# Altium integrated library Linear Technology Power Management System Supervisor, Monitor and Control.IntLib: 1611 symbols (part 13 of 100)
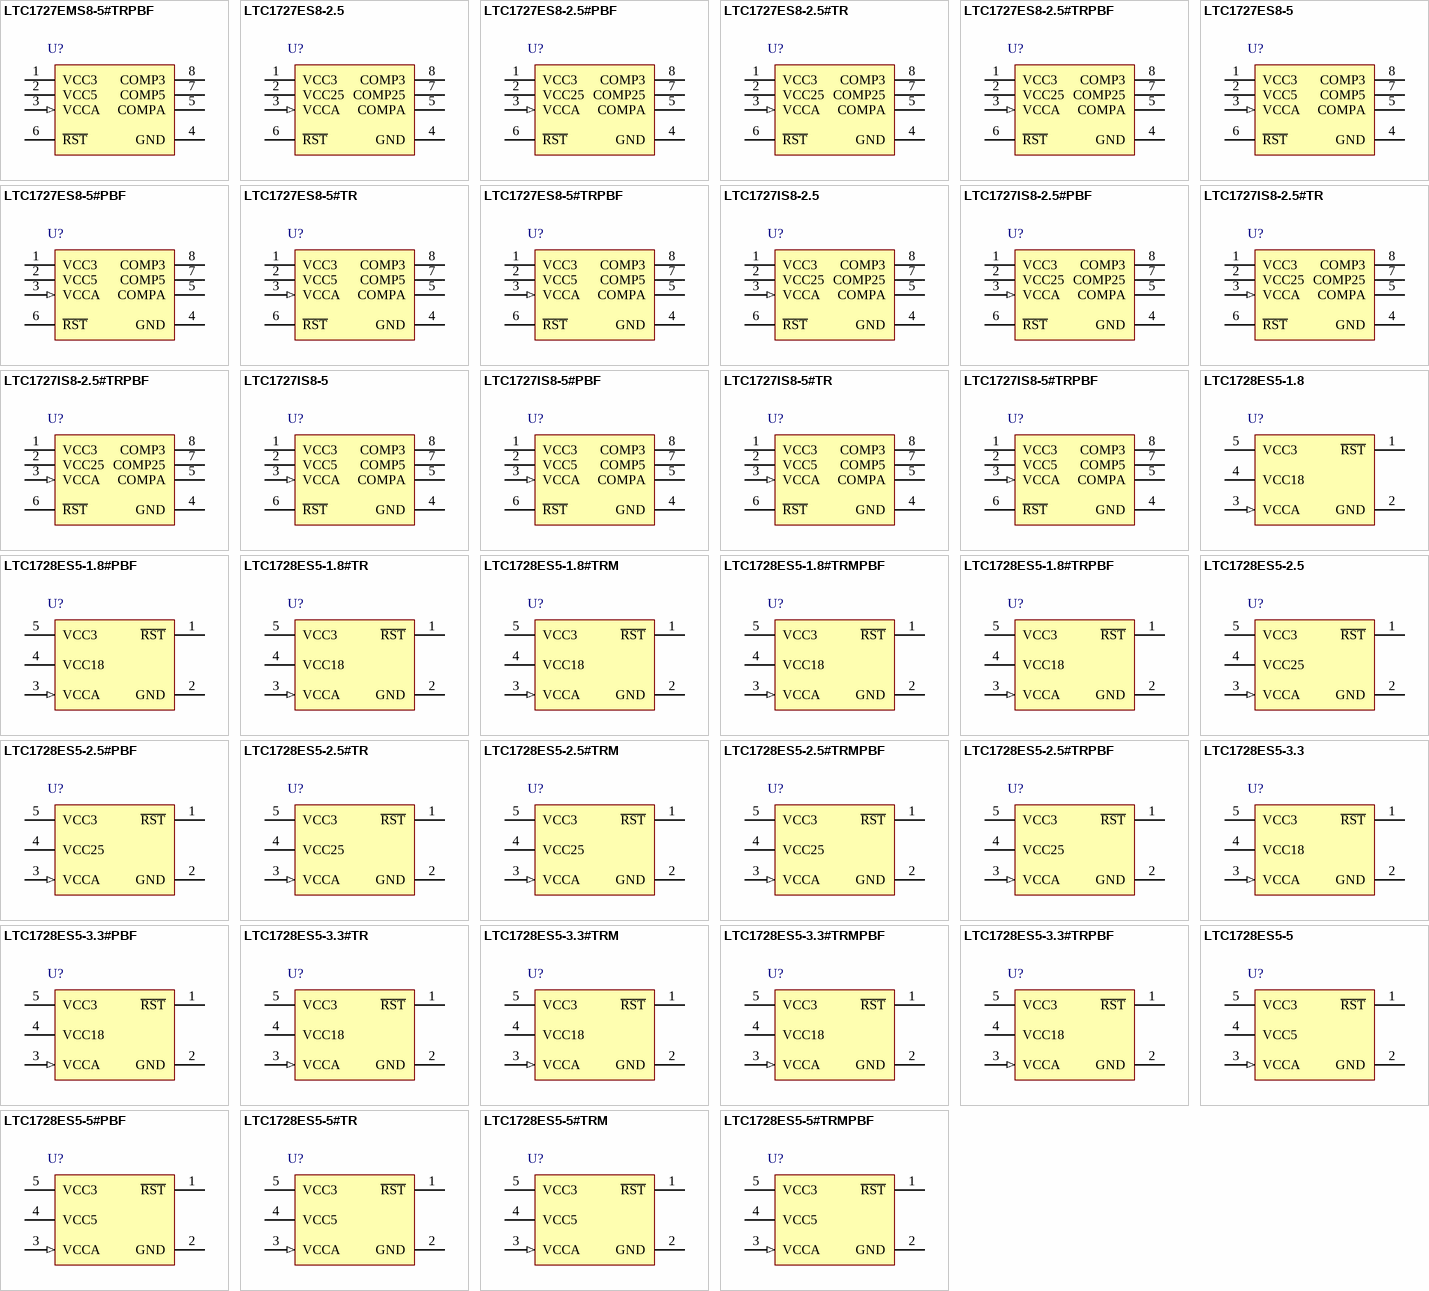
[diagram p57: symbols LTC1727EMS8-5#TRPBF to LTC1728ES5-5#TRMPBF]

## LTC1727EMS8-5#TRPBF
designator U?
Micropower Precision Triple Supply Monitor, 8-pin SOP (MS8-8), -40 to 85 degC, Pb-Free, Tape and Reel; Manufacturer: Linear Technology; PartNumber: LTC1727EMS8-5#TRPBF; Number of Supplies(#): 3; DatasheetVersion: Rev. B; PackageVersion: Rev. G, 03/2012; PackageReference: MS8-8; PackageDescription: 8-Pin Plastic MSOP, Body 3 x 3 mm, Pitch 0.65 mm; Supplier 1: Digi-Key; Supplier Part Number 1: LTC1727EMS8-5#TRPBF-ND; Packing: Tape and Reel; RoHS: TRUE; Mounting Technology: Surface Mount; ComponentLink1Description: Manufacturer URL; ComponentLink1URL: http://www.linear.com/; ComponentLink2Description: Datasheet; ComponentLink2URL: http://cds.linear.com/docs/en/datasheet/17278fb.pdf; ComponentLink3Description: Package Specification; ComponentLink3URL: http://cds.linear.com/docs/en/packaging/05081660_G_MS8.pdf
footprint LT-MS8-8_N (SOP, 8-Leads, Body 3.1x3.1mm, Pitch 0.65mm, IPC Medium Density)
footprint LT-MS8-8_L (SOP, 8-Leads, Body 3.1x3.1mm, Pitch 0.65mm, IPC High Density)
footprint LT-MS8-8_M (SOP, 8-Leads, Body 3.1x3.1mm, Pitch 0.65mm, IPC Low Density)
pins: 1 VCC3 (power) "3.3V Sense Input and Power Supply Pin. (3V Sense Input and Power Supply Pin for LTC1728- 1.8.) This pin provides power to the part when the voltage on VCC3 is greater than the voltage on VCC5/VCC25/VCC18. Bypass to ground (See Datasheet)", 2 VCC5 (power) "5V Sense Input and Power Supply Pin. This pin is used on the LTC1727-5/LTC1728-5 to provide power to the part when the voltage on VCC5 is greater than the voltage on VCC3. Bypass to ground with a >=0.1uF ceramic capacitor.", 3 VCCA (in) "1V Sense, High Impedance Input. If unused, it can be tied to either VCC3 or VCC5/VCC25/VCC18.", 4 GND (power) "Ground.", 5 COMPA (oc) "VCCA Comparator Output for the LTC1727. Active high, open-drain logic output with weak pull-up to VCC3. Asserted when VCCA is above VRTA. Deasserted when VCCA is below VRTA or if both the VCC3 and VCC5 supply pins are too (See Datasheet)", 6 ~{RST} (oc) "Reset Logic Output. Active low, opendrain logic output with weak pull-up to VCC3. Can be pulled up greater than VCC3 when interfacing to 5V logic. Asserted when one or all of the supplies are below trip thresholds and held (See Datasheet)", 7 COMP5 (oc) "VCC5 Comparator Output for the LTC1727-5. Active high, open-drain logic output with weak pull-up to VCC3. Asserted when VCC5 is above VRT5. Can be pulled greater than VCC3 using an external pull-up.", 8 COMP3 (oc) "VCC3 Comparator Output for the LTC1727. Active high, open-drain logic output with weak pull-up to VCC3. Asserted when VCC3 is above VRT3. Can be pulled greater than VCC3 using an external pull-up."

## LTC1727ES8-2.5
designator U?
Micropower Precision Triple Supply Monitor, 8-pin SOIC (S8-8), -40 to 85 degC; Manufacturer: Linear Technology; PartNumber: LTC1727ES8-2.5; Number of Supplies(#): 3; DatasheetVersion: Rev. B; PackageVersion: Rev. G, 03/2012; PackageReference: S8-8; PackageDescription: 8-Pin Plastic Small Outline (Narrow .150 Inch), Body 4.9 x 3.9 mm, Pitch 1.27 mm; Supplier 1: Digi-Key; Supplier Part Number 1: LTC1727ES8-2.5-ND; RoHS: FALSE; Mounting Technology: Surface Mount; ComponentLink1Description: Manufacturer URL; ComponentLink1URL: http://www.linear.com/; ComponentLink2Description: Datasheet; ComponentLink2URL: http://cds.linear.com/docs/en/datasheet/17278fb.pdf; ComponentLink3Description: Package Specification; ComponentLink3URL: http://cds.linear.com/docs/en/packaging/05081610_G_SO8.pdf
footprint LT-S8-8_N (SOIC, 8-Leads, Body 5x4mm, Pitch 1.27mm, IPC Medium Density)
footprint LT-S8-8_L (SOIC, 8-Leads, Body 5x4mm, Pitch 1.27mm, IPC High Density)
footprint LT-S8-8_M (SOIC, 8-Leads, Body 5x4mm, Pitch 1.27mm, IPC Low Density)
pins: 1 VCC3 (power) "3.3V Sense Input and Power Supply Pin. (3V Sense Input and Power Supply Pin for LTC1728- 1.8.) This pin provides power to the part when the voltage on VCC3 is greater than the voltage on VCC5/VCC25/VCC18. Bypass to ground (See Datasheet)", 2 VCC25 (power) "2.5V Sense Input and Power Supply Pin. This pin is used on the LTC1727-2.5/LTC1728-2.5 to provide power to the part when the voltage on VCC25 is greater than the voltage on VCC3. Bypass to ground with a >=0.1uF ceramic (See Datasheet)", 3 VCCA (in) "1V Sense, High Impedance Input. If unused, it can be tied to either VCC3 or VCC5/VCC25/VCC18.", 4 GND (power) "Ground.", 5 COMPA (oc) "VCCA Comparator Output for the LTC1727. Active high, open-drain logic output with weak pull-up to VCC3. Asserted when VCCA is above VRTA. Deasserted when VCCA is below VRTA or if both the VCC3 and VCC5 supply pins are too (See Datasheet)", 6 ~{RST} (oc) "Reset Logic Output. Active low, opendrain logic output with weak pull-up to VCC3. Can be pulled up greater than VCC3 when interfacing to 5V logic. Asserted when one or all of the supplies are below trip thresholds and held (See Datasheet)", 7 COMP25 (oc) "VCC25 Comparator Output for the LTC1727-2.5. Active high, open-drain logic output with weak pull-up to VCC3. Asserted when VCC25 is above VRT25. Can be pulled greater than VCC3 using an external pull-up.", 8 COMP3 (oc) "VCC3 Comparator Output for the LTC1727. Active high, open-drain logic output with weak pull-up to VCC3. Asserted when VCC3 is above VRT3. Can be pulled greater than VCC3 using an external pull-up."

## LTC1727ES8-2.5#PBF
designator U?
Micropower Precision Triple Supply Monitor, 8-pin SOIC (S8-8), -40 to 85 degC, Pb-Free; Manufacturer: Linear Technology; PartNumber: LTC1727ES8-2.5#PBF; Number of Supplies(#): 3; DatasheetVersion: Rev. B; PackageVersion: Rev. G, 03/2012; PackageReference: S8-8; PackageDescription: 8-Pin Plastic Small Outline (Narrow .150 Inch), Body 4.9 x 3.9 mm, Pitch 1.27 mm; Supplier 1: Digi-Key; Supplier Part Number 1: LTC1727ES8-2.5#PBF-ND; RoHS: TRUE; Mounting Technology: Surface Mount; ComponentLink1Description: Manufacturer URL; ComponentLink1URL: http://www.linear.com/; ComponentLink2Description: Datasheet; ComponentLink2URL: http://cds.linear.com/docs/en/datasheet/17278fb.pdf; ComponentLink3Description: Package Specification; ComponentLink3URL: http://cds.linear.com/docs/en/packaging/05081610_G_SO8.pdf
footprint LT-S8-8_N (SOIC, 8-Leads, Body 5x4mm, Pitch 1.27mm, IPC Medium Density)
footprint LT-S8-8_L (SOIC, 8-Leads, Body 5x4mm, Pitch 1.27mm, IPC High Density)
footprint LT-S8-8_M (SOIC, 8-Leads, Body 5x4mm, Pitch 1.27mm, IPC Low Density)
pins: 1 VCC3 (power) "3.3V Sense Input and Power Supply Pin. (3V Sense Input and Power Supply Pin for LTC1728- 1.8.) This pin provides power to the part when the voltage on VCC3 is greater than the voltage on VCC5/VCC25/VCC18. Bypass to ground (See Datasheet)", 2 VCC25 (power) "2.5V Sense Input and Power Supply Pin. This pin is used on the LTC1727-2.5/LTC1728-2.5 to provide power to the part when the voltage on VCC25 is greater than the voltage on VCC3. Bypass to ground with a >=0.1uF ceramic (See Datasheet)", 3 VCCA (in) "1V Sense, High Impedance Input. If unused, it can be tied to either VCC3 or VCC5/VCC25/VCC18.", 4 GND (power) "Ground.", 5 COMPA (oc) "VCCA Comparator Output for the LTC1727. Active high, open-drain logic output with weak pull-up to VCC3. Asserted when VCCA is above VRTA. Deasserted when VCCA is below VRTA or if both the VCC3 and VCC5 supply pins are too (See Datasheet)", 6 ~{RST} (oc) "Reset Logic Output. Active low, opendrain logic output with weak pull-up to VCC3. Can be pulled up greater than VCC3 when interfacing to 5V logic. Asserted when one or all of the supplies are below trip thresholds and held (See Datasheet)", 7 COMP25 (oc) "VCC25 Comparator Output for the LTC1727-2.5. Active high, open-drain logic output with weak pull-up to VCC3. Asserted when VCC25 is above VRT25. Can be pulled greater than VCC3 using an external pull-up.", 8 COMP3 (oc) "VCC3 Comparator Output for the LTC1727. Active high, open-drain logic output with weak pull-up to VCC3. Asserted when VCC3 is above VRT3. Can be pulled greater than VCC3 using an external pull-up."

## LTC1727ES8-2.5#TR
designator U?
Micropower Precision Triple Supply Monitor, 8-pin SOIC (S8-8), -40 to 85 degC, Tape and Reel; Manufacturer: Linear Technology; PartNumber: LTC1727ES8-2.5#TR; Number of Supplies(#): 3; DatasheetVersion: Rev. B; PackageVersion: Rev. G, 03/2012; PackageReference: S8-8; PackageDescription: 8-Pin Plastic Small Outline (Narrow .150 Inch), Body 4.9 x 3.9 mm, Pitch 1.27 mm; Supplier 1: Digi-Key; Supplier Part Number 1: LTC1727ES8-2.5#TR-ND; Packing: Tape and Reel; RoHS: FALSE; Mounting Technology: Surface Mount; ComponentLink1Description: Manufacturer URL; ComponentLink1URL: http://www.linear.com/; ComponentLink2Description: Datasheet; ComponentLink2URL: http://cds.linear.com/docs/en/datasheet/17278fb.pdf; ComponentLink3Description: Package Specification; ComponentLink3URL: http://cds.linear.com/docs/en/packaging/05081610_G_SO8.pdf
footprint LT-S8-8_N (SOIC, 8-Leads, Body 5x4mm, Pitch 1.27mm, IPC Medium Density)
footprint LT-S8-8_L (SOIC, 8-Leads, Body 5x4mm, Pitch 1.27mm, IPC High Density)
footprint LT-S8-8_M (SOIC, 8-Leads, Body 5x4mm, Pitch 1.27mm, IPC Low Density)
pins: 1 VCC3 (power) "3.3V Sense Input and Power Supply Pin. (3V Sense Input and Power Supply Pin for LTC1728- 1.8.) This pin provides power to the part when the voltage on VCC3 is greater than the voltage on VCC5/VCC25/VCC18. Bypass to ground (See Datasheet)", 2 VCC25 (power) "2.5V Sense Input and Power Supply Pin. This pin is used on the LTC1727-2.5/LTC1728-2.5 to provide power to the part when the voltage on VCC25 is greater than the voltage on VCC3. Bypass to ground with a >=0.1uF ceramic (See Datasheet)", 3 VCCA (in) "1V Sense, High Impedance Input. If unused, it can be tied to either VCC3 or VCC5/VCC25/VCC18.", 4 GND (power) "Ground.", 5 COMPA (oc) "VCCA Comparator Output for the LTC1727. Active high, open-drain logic output with weak pull-up to VCC3. Asserted when VCCA is above VRTA. Deasserted when VCCA is below VRTA or if both the VCC3 and VCC5 supply pins are too (See Datasheet)", 6 ~{RST} (oc) "Reset Logic Output. Active low, opendrain logic output with weak pull-up to VCC3. Can be pulled up greater than VCC3 when interfacing to 5V logic. Asserted when one or all of the supplies are below trip thresholds and held (See Datasheet)", 7 COMP25 (oc) "VCC25 Comparator Output for the LTC1727-2.5. Active high, open-drain logic output with weak pull-up to VCC3. Asserted when VCC25 is above VRT25. Can be pulled greater than VCC3 using an external pull-up.", 8 COMP3 (oc) "VCC3 Comparator Output for the LTC1727. Active high, open-drain logic output with weak pull-up to VCC3. Asserted when VCC3 is above VRT3. Can be pulled greater than VCC3 using an external pull-up."

## LTC1727ES8-2.5#TRPBF
designator U?
Micropower Precision Triple Supply Monitor, 8-pin SOIC (S8-8), -40 to 85 degC, Pb-Free, Tape and Reel; Manufacturer: Linear Technology; PartNumber: LTC1727ES8-2.5#TRPBF; Number of Supplies(#): 3; DatasheetVersion: Rev. B; PackageVersion: Rev. G, 03/2012; PackageReference: S8-8; PackageDescription: 8-Pin Plastic Small Outline (Narrow .150 Inch), Body 4.9 x 3.9 mm, Pitch 1.27 mm; Supplier 1: Digi-Key; Supplier Part Number 1: LTC1727ES8-2.5#TRPBF-ND; Packing: Tape and Reel; RoHS: TRUE; Mounting Technology: Surface Mount; ComponentLink1Description: Manufacturer URL; ComponentLink1URL: http://www.linear.com/; ComponentLink2Description: Datasheet; ComponentLink2URL: http://cds.linear.com/docs/en/datasheet/17278fb.pdf; ComponentLink3Description: Package Specification; ComponentLink3URL: http://cds.linear.com/docs/en/packaging/05081610_G_SO8.pdf
footprint LT-S8-8_N (SOIC, 8-Leads, Body 5x4mm, Pitch 1.27mm, IPC Medium Density)
footprint LT-S8-8_L (SOIC, 8-Leads, Body 5x4mm, Pitch 1.27mm, IPC High Density)
footprint LT-S8-8_M (SOIC, 8-Leads, Body 5x4mm, Pitch 1.27mm, IPC Low Density)
pins: 1 VCC3 (power) "3.3V Sense Input and Power Supply Pin. (3V Sense Input and Power Supply Pin for LTC1728- 1.8.) This pin provides power to the part when the voltage on VCC3 is greater than the voltage on VCC5/VCC25/VCC18. Bypass to ground (See Datasheet)", 2 VCC25 (power) "2.5V Sense Input and Power Supply Pin. This pin is used on the LTC1727-2.5/LTC1728-2.5 to provide power to the part when the voltage on VCC25 is greater than the voltage on VCC3. Bypass to ground with a >=0.1uF ceramic (See Datasheet)", 3 VCCA (in) "1V Sense, High Impedance Input. If unused, it can be tied to either VCC3 or VCC5/VCC25/VCC18.", 4 GND (power) "Ground.", 5 COMPA (oc) "VCCA Comparator Output for the LTC1727. Active high, open-drain logic output with weak pull-up to VCC3. Asserted when VCCA is above VRTA. Deasserted when VCCA is below VRTA or if both the VCC3 and VCC5 supply pins are too (See Datasheet)", 6 ~{RST} (oc) "Reset Logic Output. Active low, opendrain logic output with weak pull-up to VCC3. Can be pulled up greater than VCC3 when interfacing to 5V logic. Asserted when one or all of the supplies are below trip thresholds and held (See Datasheet)", 7 COMP25 (oc) "VCC25 Comparator Output for the LTC1727-2.5. Active high, open-drain logic output with weak pull-up to VCC3. Asserted when VCC25 is above VRT25. Can be pulled greater than VCC3 using an external pull-up.", 8 COMP3 (oc) "VCC3 Comparator Output for the LTC1727. Active high, open-drain logic output with weak pull-up to VCC3. Asserted when VCC3 is above VRT3. Can be pulled greater than VCC3 using an external pull-up."

## LTC1727ES8-5
designator U?
Micropower Precision Triple Supply Monitor, 8-pin SOIC (S8-8), -40 to 85 degC; Manufacturer: Linear Technology; PartNumber: LTC1727ES8-5; Number of Supplies(#): 3; DatasheetVersion: Rev. B; PackageVersion: Rev. G, 03/2012; PackageReference: S8-8; PackageDescription: 8-Pin Plastic Small Outline (Narrow .150 Inch), Body 4.9 x 3.9 mm, Pitch 1.27 mm; Supplier 1: Digi-Key; Supplier Part Number 1: LTC1727ES8-5-ND; Supplier 2: Newark; Supplier Part Number 2: 56M3477; RoHS: FALSE; Mounting Technology: Surface Mount; ComponentLink1Description: Manufacturer URL; ComponentLink1URL: http://www.linear.com/; ComponentLink2Description: Datasheet; ComponentLink2URL: http://cds.linear.com/docs/en/datasheet/17278fb.pdf; ComponentLink3Description: Package Specification; ComponentLink3URL: http://cds.linear.com/docs/en/packaging/05081610_G_SO8.pdf
footprint LT-S8-8_N (SOIC, 8-Leads, Body 5x4mm, Pitch 1.27mm, IPC Medium Density)
footprint LT-S8-8_L (SOIC, 8-Leads, Body 5x4mm, Pitch 1.27mm, IPC High Density)
footprint LT-S8-8_M (SOIC, 8-Leads, Body 5x4mm, Pitch 1.27mm, IPC Low Density)
pins: 1 VCC3 (power) "3.3V Sense Input and Power Supply Pin. (3V Sense Input and Power Supply Pin for LTC1728- 1.8.) This pin provides power to the part when the voltage on VCC3 is greater than the voltage on VCC5/VCC25/VCC18. Bypass to ground (See Datasheet)", 2 VCC5 (power) "5V Sense Input and Power Supply Pin. This pin is used on the LTC1727-5/LTC1728-5 to provide power to the part when the voltage on VCC5 is greater than the voltage on VCC3. Bypass to ground with a >=0.1uF ceramic capacitor.", 3 VCCA (in) "1V Sense, High Impedance Input. If unused, it can be tied to either VCC3 or VCC5/VCC25/VCC18.", 4 GND (power) "Ground.", 5 COMPA (oc) "VCCA Comparator Output for the LTC1727. Active high, open-drain logic output with weak pull-up to VCC3. Asserted when VCCA is above VRTA. Deasserted when VCCA is below VRTA or if both the VCC3 and VCC5 supply pins are too (See Datasheet)", 6 ~{RST} (oc) "Reset Logic Output. Active low, opendrain logic output with weak pull-up to VCC3. Can be pulled up greater than VCC3 when interfacing to 5V logic. Asserted when one or all of the supplies are below trip thresholds and held (See Datasheet)", 7 COMP5 (oc) "VCC5 Comparator Output for the LTC1727-5. Active high, open-drain logic output with weak pull-up to VCC3. Asserted when VCC5 is above VRT5. Can be pulled greater than VCC3 using an external pull-up.", 8 COMP3 (oc) "VCC3 Comparator Output for the LTC1727. Active high, open-drain logic output with weak pull-up to VCC3. Asserted when VCC3 is above VRT3. Can be pulled greater than VCC3 using an external pull-up."

## LTC1727ES8-5#PBF
designator U?
Micropower Precision Triple Supply Monitor, 8-pin SOIC (S8-8), -40 to 85 degC, Pb-Free; Manufacturer: Linear Technology; PartNumber: LTC1727ES8-5#PBF; Number of Supplies(#): 3; DatasheetVersion: Rev. B; PackageVersion: Rev. G, 03/2012; PackageReference: S8-8; PackageDescription: 8-Pin Plastic Small Outline (Narrow .150 Inch), Body 4.9 x 3.9 mm, Pitch 1.27 mm; Supplier 1: Digi-Key; Supplier Part Number 1: LTC1727ES8-5#PBF-ND; Supplier 2: Farnell; Supplier Part Number 2: 1273652; RoHS: TRUE; Mounting Technology: Surface Mount; ComponentLink1Description: Manufacturer URL; ComponentLink1URL: http://www.linear.com/; ComponentLink2Description: Datasheet; ComponentLink2URL: http://cds.linear.com/docs/en/datasheet/17278fb.pdf; ComponentLink3Description: Package Specification; ComponentLink3URL: http://cds.linear.com/docs/en/packaging/05081610_G_SO8.pdf
footprint LT-S8-8_N (SOIC, 8-Leads, Body 5x4mm, Pitch 1.27mm, IPC Medium Density)
footprint LT-S8-8_L (SOIC, 8-Leads, Body 5x4mm, Pitch 1.27mm, IPC High Density)
footprint LT-S8-8_M (SOIC, 8-Leads, Body 5x4mm, Pitch 1.27mm, IPC Low Density)
pins: 1 VCC3 (power) "3.3V Sense Input and Power Supply Pin. (3V Sense Input and Power Supply Pin for LTC1728- 1.8.) This pin provides power to the part when the voltage on VCC3 is greater than the voltage on VCC5/VCC25/VCC18. Bypass to ground (See Datasheet)", 2 VCC5 (power) "5V Sense Input and Power Supply Pin. This pin is used on the LTC1727-5/LTC1728-5 to provide power to the part when the voltage on VCC5 is greater than the voltage on VCC3. Bypass to ground with a >=0.1uF ceramic capacitor.", 3 VCCA (in) "1V Sense, High Impedance Input. If unused, it can be tied to either VCC3 or VCC5/VCC25/VCC18.", 4 GND (power) "Ground.", 5 COMPA (oc) "VCCA Comparator Output for the LTC1727. Active high, open-drain logic output with weak pull-up to VCC3. Asserted when VCCA is above VRTA. Deasserted when VCCA is below VRTA or if both the VCC3 and VCC5 supply pins are too (See Datasheet)", 6 ~{RST} (oc) "Reset Logic Output. Active low, opendrain logic output with weak pull-up to VCC3. Can be pulled up greater than VCC3 when interfacing to 5V logic. Asserted when one or all of the supplies are below trip thresholds and held (See Datasheet)", 7 COMP5 (oc) "VCC5 Comparator Output for the LTC1727-5. Active high, open-drain logic output with weak pull-up to VCC3. Asserted when VCC5 is above VRT5. Can be pulled greater than VCC3 using an external pull-up.", 8 COMP3 (oc) "VCC3 Comparator Output for the LTC1727. Active high, open-drain logic output with weak pull-up to VCC3. Asserted when VCC3 is above VRT3. Can be pulled greater than VCC3 using an external pull-up."

## LTC1727ES8-5#TR
designator U?
Micropower Precision Triple Supply Monitor, 8-pin SOIC (S8-8), -40 to 85 degC, Tape and Reel; Manufacturer: Linear Technology; PartNumber: LTC1727ES8-5#TR; Number of Supplies(#): 3; DatasheetVersion: Rev. B; PackageVersion: Rev. G, 03/2012; PackageReference: S8-8; PackageDescription: 8-Pin Plastic Small Outline (Narrow .150 Inch), Body 4.9 x 3.9 mm, Pitch 1.27 mm; Supplier 1: Digi-Key; Supplier Part Number 1: LTC1727ES8-5#TR-ND; Packing: Tape and Reel; RoHS: FALSE; Mounting Technology: Surface Mount; ComponentLink1Description: Manufacturer URL; ComponentLink1URL: http://www.linear.com/; ComponentLink2Description: Datasheet; ComponentLink2URL: http://cds.linear.com/docs/en/datasheet/17278fb.pdf; ComponentLink3Description: Package Specification; ComponentLink3URL: http://cds.linear.com/docs/en/packaging/05081610_G_SO8.pdf
footprint LT-S8-8_N (SOIC, 8-Leads, Body 5x4mm, Pitch 1.27mm, IPC Medium Density)
footprint LT-S8-8_L (SOIC, 8-Leads, Body 5x4mm, Pitch 1.27mm, IPC High Density)
footprint LT-S8-8_M (SOIC, 8-Leads, Body 5x4mm, Pitch 1.27mm, IPC Low Density)
pins: 1 VCC3 (power) "3.3V Sense Input and Power Supply Pin. (3V Sense Input and Power Supply Pin for LTC1728- 1.8.) This pin provides power to the part when the voltage on VCC3 is greater than the voltage on VCC5/VCC25/VCC18. Bypass to ground (See Datasheet)", 2 VCC5 (power) "5V Sense Input and Power Supply Pin. This pin is used on the LTC1727-5/LTC1728-5 to provide power to the part when the voltage on VCC5 is greater than the voltage on VCC3. Bypass to ground with a >=0.1uF ceramic capacitor.", 3 VCCA (in) "1V Sense, High Impedance Input. If unused, it can be tied to either VCC3 or VCC5/VCC25/VCC18.", 4 GND (power) "Ground.", 5 COMPA (oc) "VCCA Comparator Output for the LTC1727. Active high, open-drain logic output with weak pull-up to VCC3. Asserted when VCCA is above VRTA. Deasserted when VCCA is below VRTA or if both the VCC3 and VCC5 supply pins are too (See Datasheet)", 6 ~{RST} (oc) "Reset Logic Output. Active low, opendrain logic output with weak pull-up to VCC3. Can be pulled up greater than VCC3 when interfacing to 5V logic. Asserted when one or all of the supplies are below trip thresholds and held (See Datasheet)", 7 COMP5 (oc) "VCC5 Comparator Output for the LTC1727-5. Active high, open-drain logic output with weak pull-up to VCC3. Asserted when VCC5 is above VRT5. Can be pulled greater than VCC3 using an external pull-up.", 8 COMP3 (oc) "VCC3 Comparator Output for the LTC1727. Active high, open-drain logic output with weak pull-up to VCC3. Asserted when VCC3 is above VRT3. Can be pulled greater than VCC3 using an external pull-up."

## LTC1727ES8-5#TRPBF
designator U?
Micropower Precision Triple Supply Monitor, 8-pin SOIC (S8-8), -40 to 85 degC, Pb-Free, Tape and Reel; Manufacturer: Linear Technology; PartNumber: LTC1727ES8-5#TRPBF; Number of Supplies(#): 3; DatasheetVersion: Rev. B; PackageVersion: Rev. G, 03/2012; PackageReference: S8-8; PackageDescription: 8-Pin Plastic Small Outline (Narrow .150 Inch), Body 4.9 x 3.9 mm, Pitch 1.27 mm; Supplier 1: Digi-Key; Supplier Part Number 1: LTC1727ES8-5#TRPBF-ND; Packing: Tape and Reel; RoHS: TRUE; Mounting Technology: Surface Mount; ComponentLink1Description: Manufacturer URL; ComponentLink1URL: http://www.linear.com/; ComponentLink2Description: Datasheet; ComponentLink2URL: http://cds.linear.com/docs/en/datasheet/17278fb.pdf; ComponentLink3Description: Package Specification; ComponentLink3URL: http://cds.linear.com/docs/en/packaging/05081610_G_SO8.pdf
footprint LT-S8-8_N (SOIC, 8-Leads, Body 5x4mm, Pitch 1.27mm, IPC Medium Density)
footprint LT-S8-8_L (SOIC, 8-Leads, Body 5x4mm, Pitch 1.27mm, IPC High Density)
footprint LT-S8-8_M (SOIC, 8-Leads, Body 5x4mm, Pitch 1.27mm, IPC Low Density)
pins: 1 VCC3 (power) "3.3V Sense Input and Power Supply Pin. (3V Sense Input and Power Supply Pin for LTC1728- 1.8.) This pin provides power to the part when the voltage on VCC3 is greater than the voltage on VCC5/VCC25/VCC18. Bypass to ground (See Datasheet)", 2 VCC5 (power) "5V Sense Input and Power Supply Pin. This pin is used on the LTC1727-5/LTC1728-5 to provide power to the part when the voltage on VCC5 is greater than the voltage on VCC3. Bypass to ground with a >=0.1uF ceramic capacitor.", 3 VCCA (in) "1V Sense, High Impedance Input. If unused, it can be tied to either VCC3 or VCC5/VCC25/VCC18.", 4 GND (power) "Ground.", 5 COMPA (oc) "VCCA Comparator Output for the LTC1727. Active high, open-drain logic output with weak pull-up to VCC3. Asserted when VCCA is above VRTA. Deasserted when VCCA is below VRTA or if both the VCC3 and VCC5 supply pins are too (See Datasheet)", 6 ~{RST} (oc) "Reset Logic Output. Active low, opendrain logic output with weak pull-up to VCC3. Can be pulled up greater than VCC3 when interfacing to 5V logic. Asserted when one or all of the supplies are below trip thresholds and held (See Datasheet)", 7 COMP5 (oc) "VCC5 Comparator Output for the LTC1727-5. Active high, open-drain logic output with weak pull-up to VCC3. Asserted when VCC5 is above VRT5. Can be pulled greater than VCC3 using an external pull-up.", 8 COMP3 (oc) "VCC3 Comparator Output for the LTC1727. Active high, open-drain logic output with weak pull-up to VCC3. Asserted when VCC3 is above VRT3. Can be pulled greater than VCC3 using an external pull-up."

## LTC1727IS8-2.5
designator U?
Micropower Precision Triple Supply Monitor, 8-pin SOIC (S8-8), -40 to 85 degC; Manufacturer: Linear Technology; PartNumber: LTC1727IS8-2.5; Number of Supplies(#): 3; DatasheetVersion: Rev. B; PackageVersion: Rev. G, 03/2012; PackageReference: S8-8; PackageDescription: 8-Pin Plastic Small Outline (Narrow .150 Inch), Body 4.9 x 3.9 mm, Pitch 1.27 mm; Supplier 1: Digi-Key; Supplier Part Number 1: LTC1727IS8-2.5-ND; RoHS: FALSE; Mounting Technology: Surface Mount; ComponentLink1Description: Manufacturer URL; ComponentLink1URL: http://www.linear.com/; ComponentLink2Description: Datasheet; ComponentLink2URL: http://cds.linear.com/docs/en/datasheet/17278fb.pdf; ComponentLink3Description: Package Specification; ComponentLink3URL: http://cds.linear.com/docs/en/packaging/05081610_G_SO8.pdf
footprint LT-S8-8_N (SOIC, 8-Leads, Body 5x4mm, Pitch 1.27mm, IPC Medium Density)
footprint LT-S8-8_L (SOIC, 8-Leads, Body 5x4mm, Pitch 1.27mm, IPC High Density)
footprint LT-S8-8_M (SOIC, 8-Leads, Body 5x4mm, Pitch 1.27mm, IPC Low Density)
pins: 1 VCC3 (power) "3.3V Sense Input and Power Supply Pin. (3V Sense Input and Power Supply Pin for LTC1728- 1.8.) This pin provides power to the part when the voltage on VCC3 is greater than the voltage on VCC5/VCC25/VCC18. Bypass to ground (See Datasheet)", 2 VCC25 (power) "2.5V Sense Input and Power Supply Pin. This pin is used on the LTC1727-2.5/LTC1728-2.5 to provide power to the part when the voltage on VCC25 is greater than the voltage on VCC3. Bypass to ground with a >=0.1uF ceramic (See Datasheet)", 3 VCCA (in) "1V Sense, High Impedance Input. If unused, it can be tied to either VCC3 or VCC5/VCC25/VCC18.", 4 GND (power) "Ground.", 5 COMPA (oc) "VCCA Comparator Output for the LTC1727. Active high, open-drain logic output with weak pull-up to VCC3. Asserted when VCCA is above VRTA. Deasserted when VCCA is below VRTA or if both the VCC3 and VCC5 supply pins are too (See Datasheet)", 6 ~{RST} (oc) "Reset Logic Output. Active low, opendrain logic output with weak pull-up to VCC3. Can be pulled up greater than VCC3 when interfacing to 5V logic. Asserted when one or all of the supplies are below trip thresholds and held (See Datasheet)", 7 COMP25 (oc) "VCC25 Comparator Output for the LTC1727-2.5. Active high, open-drain logic output with weak pull-up to VCC3. Asserted when VCC25 is above VRT25. Can be pulled greater than VCC3 using an external pull-up.", 8 COMP3 (oc) "VCC3 Comparator Output for the LTC1727. Active high, open-drain logic output with weak pull-up to VCC3. Asserted when VCC3 is above VRT3. Can be pulled greater than VCC3 using an external pull-up."

## LTC1727IS8-2.5#PBF
designator U?
Micropower Precision Triple Supply Monitor, 8-pin SOIC (S8-8), -40 to 85 degC, Pb-Free; Manufacturer: Linear Technology; PartNumber: LTC1727IS8-2.5#PBF; Number of Supplies(#): 3; DatasheetVersion: Rev. B; PackageVersion: Rev. G, 03/2012; PackageReference: S8-8; PackageDescription: 8-Pin Plastic Small Outline (Narrow .150 Inch), Body 4.9 x 3.9 mm, Pitch 1.27 mm; Supplier 1: Digi-Key; Supplier Part Number 1: LTC1727IS8-2.5#PBF-ND; Supplier 2: Newark; Supplier Part Number 2: 56M3482; RoHS: TRUE; Mounting Technology: Surface Mount; ComponentLink1Description: Manufacturer URL; ComponentLink1URL: http://www.linear.com/; ComponentLink2Description: Datasheet; ComponentLink2URL: http://cds.linear.com/docs/en/datasheet/17278fb.pdf; ComponentLink3Description: Package Specification; ComponentLink3URL: http://cds.linear.com/docs/en/packaging/05081610_G_SO8.pdf
footprint LT-S8-8_N (SOIC, 8-Leads, Body 5x4mm, Pitch 1.27mm, IPC Medium Density)
footprint LT-S8-8_L (SOIC, 8-Leads, Body 5x4mm, Pitch 1.27mm, IPC High Density)
footprint LT-S8-8_M (SOIC, 8-Leads, Body 5x4mm, Pitch 1.27mm, IPC Low Density)
pins: 1 VCC3 (power) "3.3V Sense Input and Power Supply Pin. (3V Sense Input and Power Supply Pin for LTC1728- 1.8.) This pin provides power to the part when the voltage on VCC3 is greater than the voltage on VCC5/VCC25/VCC18. Bypass to ground (See Datasheet)", 2 VCC25 (power) "2.5V Sense Input and Power Supply Pin. This pin is used on the LTC1727-2.5/LTC1728-2.5 to provide power to the part when the voltage on VCC25 is greater than the voltage on VCC3. Bypass to ground with a >=0.1uF ceramic (See Datasheet)", 3 VCCA (in) "1V Sense, High Impedance Input. If unused, it can be tied to either VCC3 or VCC5/VCC25/VCC18.", 4 GND (power) "Ground.", 5 COMPA (oc) "VCCA Comparator Output for the LTC1727. Active high, open-drain logic output with weak pull-up to VCC3. Asserted when VCCA is above VRTA. Deasserted when VCCA is below VRTA or if both the VCC3 and VCC5 supply pins are too (See Datasheet)", 6 ~{RST} (oc) "Reset Logic Output. Active low, opendrain logic output with weak pull-up to VCC3. Can be pulled up greater than VCC3 when interfacing to 5V logic. Asserted when one or all of the supplies are below trip thresholds and held (See Datasheet)", 7 COMP25 (oc) "VCC25 Comparator Output for the LTC1727-2.5. Active high, open-drain logic output with weak pull-up to VCC3. Asserted when VCC25 is above VRT25. Can be pulled greater than VCC3 using an external pull-up.", 8 COMP3 (oc) "VCC3 Comparator Output for the LTC1727. Active high, open-drain logic output with weak pull-up to VCC3. Asserted when VCC3 is above VRT3. Can be pulled greater than VCC3 using an external pull-up."

## LTC1727IS8-2.5#TR
designator U?
Micropower Precision Triple Supply Monitor, 8-pin SOIC (S8-8), -40 to 85 degC, Tape and Reel; Manufacturer: Linear Technology; PartNumber: LTC1727IS8-2.5#TR; Number of Supplies(#): 3; DatasheetVersion: Rev. B; PackageVersion: Rev. G, 03/2012; PackageReference: S8-8; PackageDescription: 8-Pin Plastic Small Outline (Narrow .150 Inch), Body 4.9 x 3.9 mm, Pitch 1.27 mm; Supplier 1: Digi-Key; Supplier Part Number 1: LTC1727IS8-2.5#TR-ND; Packing: Tape and Reel; RoHS: FALSE; Mounting Technology: Surface Mount; ComponentLink1Description: Manufacturer URL; ComponentLink1URL: http://www.linear.com/; ComponentLink2Description: Datasheet; ComponentLink2URL: http://cds.linear.com/docs/en/datasheet/17278fb.pdf; ComponentLink3Description: Package Specification; ComponentLink3URL: http://cds.linear.com/docs/en/packaging/05081610_G_SO8.pdf
footprint LT-S8-8_N (SOIC, 8-Leads, Body 5x4mm, Pitch 1.27mm, IPC Medium Density)
footprint LT-S8-8_L (SOIC, 8-Leads, Body 5x4mm, Pitch 1.27mm, IPC High Density)
footprint LT-S8-8_M (SOIC, 8-Leads, Body 5x4mm, Pitch 1.27mm, IPC Low Density)
pins: 1 VCC3 (power) "3.3V Sense Input and Power Supply Pin. (3V Sense Input and Power Supply Pin for LTC1728- 1.8.) This pin provides power to the part when the voltage on VCC3 is greater than the voltage on VCC5/VCC25/VCC18. Bypass to ground (See Datasheet)", 2 VCC25 (power) "2.5V Sense Input and Power Supply Pin. This pin is used on the LTC1727-2.5/LTC1728-2.5 to provide power to the part when the voltage on VCC25 is greater than the voltage on VCC3. Bypass to ground with a >=0.1uF ceramic (See Datasheet)", 3 VCCA (in) "1V Sense, High Impedance Input. If unused, it can be tied to either VCC3 or VCC5/VCC25/VCC18.", 4 GND (power) "Ground.", 5 COMPA (oc) "VCCA Comparator Output for the LTC1727. Active high, open-drain logic output with weak pull-up to VCC3. Asserted when VCCA is above VRTA. Deasserted when VCCA is below VRTA or if both the VCC3 and VCC5 supply pins are too (See Datasheet)", 6 ~{RST} (oc) "Reset Logic Output. Active low, opendrain logic output with weak pull-up to VCC3. Can be pulled up greater than VCC3 when interfacing to 5V logic. Asserted when one or all of the supplies are below trip thresholds and held (See Datasheet)", 7 COMP25 (oc) "VCC25 Comparator Output for the LTC1727-2.5. Active high, open-drain logic output with weak pull-up to VCC3. Asserted when VCC25 is above VRT25. Can be pulled greater than VCC3 using an external pull-up.", 8 COMP3 (oc) "VCC3 Comparator Output for the LTC1727. Active high, open-drain logic output with weak pull-up to VCC3. Asserted when VCC3 is above VRT3. Can be pulled greater than VCC3 using an external pull-up."

## LTC1727IS8-2.5#TRPBF
designator U?
Micropower Precision Triple Supply Monitor, 8-pin SOIC (S8-8), -40 to 85 degC, Pb-Free, Tape and Reel; Manufacturer: Linear Technology; PartNumber: LTC1727IS8-2.5#TRPBF; Number of Supplies(#): 3; DatasheetVersion: Rev. B; PackageVersion: Rev. G, 03/2012; PackageReference: S8-8; PackageDescription: 8-Pin Plastic Small Outline (Narrow .150 Inch), Body 4.9 x 3.9 mm, Pitch 1.27 mm; Supplier 1: Digi-Key; Supplier Part Number 1: LTC1727IS8-2.5#TRPBF-ND; Supplier 2: Newark; Supplier Part Number 2: 56M3484; Packing: Tape and Reel; RoHS: TRUE; Mounting Technology: Surface Mount; ComponentLink1Description: Manufacturer URL; ComponentLink1URL: http://www.linear.com/; ComponentLink2Description: Datasheet; ComponentLink2URL: http://cds.linear.com/docs/en/datasheet/17278fb.pdf; ComponentLink3Description: Package Specification; ComponentLink3URL: http://cds.linear.com/docs/en/packaging/05081610_G_SO8.pdf
footprint LT-S8-8_N (SOIC, 8-Leads, Body 5x4mm, Pitch 1.27mm, IPC Medium Density)
footprint LT-S8-8_L (SOIC, 8-Leads, Body 5x4mm, Pitch 1.27mm, IPC High Density)
footprint LT-S8-8_M (SOIC, 8-Leads, Body 5x4mm, Pitch 1.27mm, IPC Low Density)
pins: 1 VCC3 (power) "3.3V Sense Input and Power Supply Pin. (3V Sense Input and Power Supply Pin for LTC1728- 1.8.) This pin provides power to the part when the voltage on VCC3 is greater than the voltage on VCC5/VCC25/VCC18. Bypass to ground (See Datasheet)", 2 VCC25 (power) "2.5V Sense Input and Power Supply Pin. This pin is used on the LTC1727-2.5/LTC1728-2.5 to provide power to the part when the voltage on VCC25 is greater than the voltage on VCC3. Bypass to ground with a >=0.1uF ceramic (See Datasheet)", 3 VCCA (in) "1V Sense, High Impedance Input. If unused, it can be tied to either VCC3 or VCC5/VCC25/VCC18.", 4 GND (power) "Ground.", 5 COMPA (oc) "VCCA Comparator Output for the LTC1727. Active high, open-drain logic output with weak pull-up to VCC3. Asserted when VCCA is above VRTA. Deasserted when VCCA is below VRTA or if both the VCC3 and VCC5 supply pins are too (See Datasheet)", 6 ~{RST} (oc) "Reset Logic Output. Active low, opendrain logic output with weak pull-up to VCC3. Can be pulled up greater than VCC3 when interfacing to 5V logic. Asserted when one or all of the supplies are below trip thresholds and held (See Datasheet)", 7 COMP25 (oc) "VCC25 Comparator Output for the LTC1727-2.5. Active high, open-drain logic output with weak pull-up to VCC3. Asserted when VCC25 is above VRT25. Can be pulled greater than VCC3 using an external pull-up.", 8 COMP3 (oc) "VCC3 Comparator Output for the LTC1727. Active high, open-drain logic output with weak pull-up to VCC3. Asserted when VCC3 is above VRT3. Can be pulled greater than VCC3 using an external pull-up."

## LTC1727IS8-5
designator U?
Micropower Precision Triple Supply Monitor, 8-pin SOIC (S8-8), -40 to 85 degC; Manufacturer: Linear Technology; PartNumber: LTC1727IS8-5; Number of Supplies(#): 3; DatasheetVersion: Rev. B; PackageVersion: Rev. G, 03/2012; PackageReference: S8-8; PackageDescription: 8-Pin Plastic Small Outline (Narrow .150 Inch), Body 4.9 x 3.9 mm, Pitch 1.27 mm; Supplier 1: Digi-Key; Supplier Part Number 1: LTC1727IS8-5-ND; Supplier 2: Newark; Supplier Part Number 2: 19M1444; RoHS: FALSE; Mounting Technology: Surface Mount; ComponentLink1Description: Manufacturer URL; ComponentLink1URL: http://www.linear.com/; ComponentLink2Description: Datasheet; ComponentLink2URL: http://cds.linear.com/docs/en/datasheet/17278fb.pdf; ComponentLink3Description: Package Specification; ComponentLink3URL: http://cds.linear.com/docs/en/packaging/05081610_G_SO8.pdf
footprint LT-S8-8_N (SOIC, 8-Leads, Body 5x4mm, Pitch 1.27mm, IPC Medium Density)
footprint LT-S8-8_L (SOIC, 8-Leads, Body 5x4mm, Pitch 1.27mm, IPC High Density)
footprint LT-S8-8_M (SOIC, 8-Leads, Body 5x4mm, Pitch 1.27mm, IPC Low Density)
pins: 1 VCC3 (power) "3.3V Sense Input and Power Supply Pin. (3V Sense Input and Power Supply Pin for LTC1728- 1.8.) This pin provides power to the part when the voltage on VCC3 is greater than the voltage on VCC5/VCC25/VCC18. Bypass to ground (See Datasheet)", 2 VCC5 (power) "5V Sense Input and Power Supply Pin. This pin is used on the LTC1727-5/LTC1728-5 to provide power to the part when the voltage on VCC5 is greater than the voltage on VCC3. Bypass to ground with a >=0.1uF ceramic capacitor.", 3 VCCA (in) "1V Sense, High Impedance Input. If unused, it can be tied to either VCC3 or VCC5/VCC25/VCC18.", 4 GND (power) "Ground.", 5 COMPA (oc) "VCCA Comparator Output for the LTC1727. Active high, open-drain logic output with weak pull-up to VCC3. Asserted when VCCA is above VRTA. Deasserted when VCCA is below VRTA or if both the VCC3 and VCC5 supply pins are too (See Datasheet)", 6 ~{RST} (oc) "Reset Logic Output. Active low, opendrain logic output with weak pull-up to VCC3. Can be pulled up greater than VCC3 when interfacing to 5V logic. Asserted when one or all of the supplies are below trip thresholds and held (See Datasheet)", 7 COMP5 (oc) "VCC5 Comparator Output for the LTC1727-5. Active high, open-drain logic output with weak pull-up to VCC3. Asserted when VCC5 is above VRT5. Can be pulled greater than VCC3 using an external pull-up.", 8 COMP3 (oc) "VCC3 Comparator Output for the LTC1727. Active high, open-drain logic output with weak pull-up to VCC3. Asserted when VCC3 is above VRT3. Can be pulled greater than VCC3 using an external pull-up."

## LTC1727IS8-5#PBF
designator U?
Micropower Precision Triple Supply Monitor, 8-pin SOIC (S8-8), -40 to 85 degC, Pb-Free; Manufacturer: Linear Technology; PartNumber: LTC1727IS8-5#PBF; Number of Supplies(#): 3; DatasheetVersion: Rev. B; PackageVersion: Rev. G, 03/2012; PackageReference: S8-8; PackageDescription: 8-Pin Plastic Small Outline (Narrow .150 Inch), Body 4.9 x 3.9 mm, Pitch 1.27 mm; Supplier 1: Digi-Key; Supplier Part Number 1: LTC1727IS8-5#PBF-ND; Supplier 2: Farnell; Supplier Part Number 2: 2295395; Supplier 3: Newark; Supplier Part Number 3: 56M3485; RoHS: TRUE; Mounting Technology: Surface Mount; ComponentLink1Description: Manufacturer URL; ComponentLink1URL: http://www.linear.com/; ComponentLink2Description: Datasheet; ComponentLink2URL: http://cds.linear.com/docs/en/datasheet/17278fb.pdf; ComponentLink3Description: Package Specification; ComponentLink3URL: http://cds.linear.com/docs/en/packaging/05081610_G_SO8.pdf
footprint LT-S8-8_N (SOIC, 8-Leads, Body 5x4mm, Pitch 1.27mm, IPC Medium Density)
footprint LT-S8-8_L (SOIC, 8-Leads, Body 5x4mm, Pitch 1.27mm, IPC High Density)
footprint LT-S8-8_M (SOIC, 8-Leads, Body 5x4mm, Pitch 1.27mm, IPC Low Density)
pins: 1 VCC3 (power) "3.3V Sense Input and Power Supply Pin. (3V Sense Input and Power Supply Pin for LTC1728- 1.8.) This pin provides power to the part when the voltage on VCC3 is greater than the voltage on VCC5/VCC25/VCC18. Bypass to ground (See Datasheet)", 2 VCC5 (power) "5V Sense Input and Power Supply Pin. This pin is used on the LTC1727-5/LTC1728-5 to provide power to the part when the voltage on VCC5 is greater than the voltage on VCC3. Bypass to ground with a >=0.1uF ceramic capacitor.", 3 VCCA (in) "1V Sense, High Impedance Input. If unused, it can be tied to either VCC3 or VCC5/VCC25/VCC18.", 4 GND (power) "Ground.", 5 COMPA (oc) "VCCA Comparator Output for the LTC1727. Active high, open-drain logic output with weak pull-up to VCC3. Asserted when VCCA is above VRTA. Deasserted when VCCA is below VRTA or if both the VCC3 and VCC5 supply pins are too (See Datasheet)", 6 ~{RST} (oc) "Reset Logic Output. Active low, opendrain logic output with weak pull-up to VCC3. Can be pulled up greater than VCC3 when interfacing to 5V logic. Asserted when one or all of the supplies are below trip thresholds and held (See Datasheet)", 7 COMP5 (oc) "VCC5 Comparator Output for the LTC1727-5. Active high, open-drain logic output with weak pull-up to VCC3. Asserted when VCC5 is above VRT5. Can be pulled greater than VCC3 using an external pull-up.", 8 COMP3 (oc) "VCC3 Comparator Output for the LTC1727. Active high, open-drain logic output with weak pull-up to VCC3. Asserted when VCC3 is above VRT3. Can be pulled greater than VCC3 using an external pull-up."

## LTC1727IS8-5#TR
designator U?
Micropower Precision Triple Supply Monitor, 8-pin SOIC (S8-8), -40 to 85 degC, Tape and Reel; Manufacturer: Linear Technology; PartNumber: LTC1727IS8-5#TR; Number of Supplies(#): 3; DatasheetVersion: Rev. B; PackageVersion: Rev. G, 03/2012; PackageReference: S8-8; PackageDescription: 8-Pin Plastic Small Outline (Narrow .150 Inch), Body 4.9 x 3.9 mm, Pitch 1.27 mm; Supplier 1: Digi-Key; Supplier Part Number 1: LTC1727IS8-5#TR-ND; Packing: Tape and Reel; RoHS: FALSE; Mounting Technology: Surface Mount; ComponentLink1Description: Manufacturer URL; ComponentLink1URL: http://www.linear.com/; ComponentLink2Description: Datasheet; ComponentLink2URL: http://cds.linear.com/docs/en/datasheet/17278fb.pdf; ComponentLink3Description: Package Specification; ComponentLink3URL: http://cds.linear.com/docs/en/packaging/05081610_G_SO8.pdf
footprint LT-S8-8_N (SOIC, 8-Leads, Body 5x4mm, Pitch 1.27mm, IPC Medium Density)
footprint LT-S8-8_L (SOIC, 8-Leads, Body 5x4mm, Pitch 1.27mm, IPC High Density)
footprint LT-S8-8_M (SOIC, 8-Leads, Body 5x4mm, Pitch 1.27mm, IPC Low Density)
pins: 1 VCC3 (power) "3.3V Sense Input and Power Supply Pin. (3V Sense Input and Power Supply Pin for LTC1728- 1.8.) This pin provides power to the part when the voltage on VCC3 is greater than the voltage on VCC5/VCC25/VCC18. Bypass to ground (See Datasheet)", 2 VCC5 (power) "5V Sense Input and Power Supply Pin. This pin is used on the LTC1727-5/LTC1728-5 to provide power to the part when the voltage on VCC5 is greater than the voltage on VCC3. Bypass to ground with a >=0.1uF ceramic capacitor.", 3 VCCA (in) "1V Sense, High Impedance Input. If unused, it can be tied to either VCC3 or VCC5/VCC25/VCC18.", 4 GND (power) "Ground.", 5 COMPA (oc) "VCCA Comparator Output for the LTC1727. Active high, open-drain logic output with weak pull-up to VCC3. Asserted when VCCA is above VRTA. Deasserted when VCCA is below VRTA or if both the VCC3 and VCC5 supply pins are too (See Datasheet)", 6 ~{RST} (oc) "Reset Logic Output. Active low, opendrain logic output with weak pull-up to VCC3. Can be pulled up greater than VCC3 when interfacing to 5V logic. Asserted when one or all of the supplies are below trip thresholds and held (See Datasheet)", 7 COMP5 (oc) "VCC5 Comparator Output for the LTC1727-5. Active high, open-drain logic output with weak pull-up to VCC3. Asserted when VCC5 is above VRT5. Can be pulled greater than VCC3 using an external pull-up.", 8 COMP3 (oc) "VCC3 Comparator Output for the LTC1727. Active high, open-drain logic output with weak pull-up to VCC3. Asserted when VCC3 is above VRT3. Can be pulled greater than VCC3 using an external pull-up."

## LTC1727IS8-5#TRPBF
designator U?
Micropower Precision Triple Supply Monitor, 8-pin SOIC (S8-8), -40 to 85 degC, Pb-Free, Tape and Reel; Manufacturer: Linear Technology; PartNumber: LTC1727IS8-5#TRPBF; Number of Supplies(#): 3; DatasheetVersion: Rev. B; PackageVersion: Rev. G, 03/2012; PackageReference: S8-8; PackageDescription: 8-Pin Plastic Small Outline (Narrow .150 Inch), Body 4.9 x 3.9 mm, Pitch 1.27 mm; Supplier 1: Digi-Key; Supplier Part Number 1: LTC1727IS8-5#TRPBF-ND; Supplier 2: Newark; Supplier Part Number 2: 56M3487; Packing: Tape and Reel; RoHS: TRUE; Mounting Technology: Surface Mount; ComponentLink1Description: Manufacturer URL; ComponentLink1URL: http://www.linear.com/; ComponentLink2Description: Datasheet; ComponentLink2URL: http://cds.linear.com/docs/en/datasheet/17278fb.pdf; ComponentLink3Description: Package Specification; ComponentLink3URL: http://cds.linear.com/docs/en/packaging/05081610_G_SO8.pdf
footprint LT-S8-8_N (SOIC, 8-Leads, Body 5x4mm, Pitch 1.27mm, IPC Medium Density)
footprint LT-S8-8_L (SOIC, 8-Leads, Body 5x4mm, Pitch 1.27mm, IPC High Density)
footprint LT-S8-8_M (SOIC, 8-Leads, Body 5x4mm, Pitch 1.27mm, IPC Low Density)
pins: 1 VCC3 (power) "3.3V Sense Input and Power Supply Pin. (3V Sense Input and Power Supply Pin for LTC1728- 1.8.) This pin provides power to the part when the voltage on VCC3 is greater than the voltage on VCC5/VCC25/VCC18. Bypass to ground (See Datasheet)", 2 VCC5 (power) "5V Sense Input and Power Supply Pin. This pin is used on the LTC1727-5/LTC1728-5 to provide power to the part when the voltage on VCC5 is greater than the voltage on VCC3. Bypass to ground with a >=0.1uF ceramic capacitor.", 3 VCCA (in) "1V Sense, High Impedance Input. If unused, it can be tied to either VCC3 or VCC5/VCC25/VCC18.", 4 GND (power) "Ground.", 5 COMPA (oc) "VCCA Comparator Output for the LTC1727. Active high, open-drain logic output with weak pull-up to VCC3. Asserted when VCCA is above VRTA. Deasserted when VCCA is below VRTA or if both the VCC3 and VCC5 supply pins are too (See Datasheet)", 6 ~{RST} (oc) "Reset Logic Output. Active low, opendrain logic output with weak pull-up to VCC3. Can be pulled up greater than VCC3 when interfacing to 5V logic. Asserted when one or all of the supplies are below trip thresholds and held (See Datasheet)", 7 COMP5 (oc) "VCC5 Comparator Output for the LTC1727-5. Active high, open-drain logic output with weak pull-up to VCC3. Asserted when VCC5 is above VRT5. Can be pulled greater than VCC3 using an external pull-up.", 8 COMP3 (oc) "VCC3 Comparator Output for the LTC1727. Active high, open-drain logic output with weak pull-up to VCC3. Asserted when VCC3 is above VRT3. Can be pulled greater than VCC3 using an external pull-up."

## LTC1728ES5-1.8
designator U?
Micropower Precision Triple Supply Monitor, 5-pin SOT23 (S5-5), -40 to 85 degC; Manufacturer: Linear Technology; PartNumber: LTC1728ES5-1.8; Number of Supplies(#): 3; DatasheetVersion: Rev. B; PackageVersion: Aug-07; PackageReference: S5-5; PackageDescription: 5-Pin Plastic SOT-23, Body 1.625 x 2.90 mm, Pitch 0.95 mm; RoHS: FALSE; Mounting Technology: Surface Mount; ComponentLink1Description: Manufacturer URL; ComponentLink1URL: http://www.linear.com/; ComponentLink2Description: Datasheet; ComponentLink2URL: http://cds.linear.com/docs/en/datasheet/17278fb.pdf; ComponentLink3Description: Package Specification; ComponentLink3URL: http://cds.linear.com/docs/en/datasheet/17278fb.pdf
footprint LT-S5-5-SOT-23_N (SOT23, 5-Leads, Body 3x1.75mm, Pitch 0.95mm, IPC Medium Density)
footprint LT-S5-5-SOT-23_L (SOT23, 5-Leads, Body 3x1.75mm, Pitch 0.95mm, IPC High Density)
footprint LT-S5-5-SOT-23_M (SOT23, 5-Leads, Body 3x1.75mm, Pitch 0.95mm, IPC Low Density)
pins: 1 ~{RST} (oc) "Reset Logic Output. Active low, opendrain logic output with weak pull-up to VCC3. Can be pulled up greater than VCC3 when interfacing to 5V logic. Asserted when one or all of the supplies are below trip thresholds and held (See Datasheet)", 2 GND (power) "Ground.", 3 VCCA (in) "1V Sense, High Impedance Input. If unused,it can be tied to either VCC3 or VCC5/VCC25/VCC18.", 4 VCC18 (power) "1.8V Sense Input and Power Supply Pin. This pin is used on the LTC1728-1.8/LTC1728?3.3 to provide power to the part when the voltage on VCC18 is greater than the voltage on VCC3. Bypass to ground with a >= 0.1uF ceramic (See Datasheet)", 5 VCC3 (power) "3.3V Sense Input and Power Supply Pin. (3V Sense Input and Power Supply Pin for LTC1728-1.8.) This pin provides power to the part when the voltage on VCC3 is greater than the voltage on VCC5/VCC25/VCC18.Bypass to ground with (See Datasheet)"

## LTC1728ES5-1.8#PBF
designator U?
Micropower Precision Triple Supply Monitor, 5-pin SOT23 (S5-5), -40 to 85 degC, Pb-Free; Manufacturer: Linear Technology; PartNumber: LTC1728ES5-1.8#PBF; Number of Supplies(#): 3; DatasheetVersion: Rev. B; PackageVersion: Aug-07; PackageReference: S5-5; PackageDescription: 5-Pin Plastic SOT-23, Body 1.625 x 2.90 mm, Pitch 0.95 mm; Supplier 1: Farnell; Supplier Part Number 1: 2295396; Supplier 2: Newark; Supplier Part Number 2: 78T2513; RoHS: TRUE; Mounting Technology: Surface Mount; ComponentLink1Description: Manufacturer URL; ComponentLink1URL: http://www.linear.com/; ComponentLink2Description: Datasheet; ComponentLink2URL: http://cds.linear.com/docs/en/datasheet/17278fb.pdf; ComponentLink3Description: Package Specification; ComponentLink3URL: http://cds.linear.com/docs/en/datasheet/17278fb.pdf
footprint LT-S5-5-SOT-23_N (SOT23, 5-Leads, Body 3x1.75mm, Pitch 0.95mm, IPC Medium Density)
footprint LT-S5-5-SOT-23_L (SOT23, 5-Leads, Body 3x1.75mm, Pitch 0.95mm, IPC High Density)
footprint LT-S5-5-SOT-23_M (SOT23, 5-Leads, Body 3x1.75mm, Pitch 0.95mm, IPC Low Density)
pins: 1 ~{RST} (oc) "Reset Logic Output. Active low, opendrain logic output with weak pull-up to VCC3. Can be pulled up greater than VCC3 when interfacing to 5V logic. Asserted when one or all of the supplies are below trip thresholds and held (See Datasheet)", 2 GND (power) "Ground.", 3 VCCA (in) "1V Sense, High Impedance Input. If unused,it can be tied to either VCC3 or VCC5/VCC25/VCC18.", 4 VCC18 (power) "1.8V Sense Input and Power Supply Pin. This pin is used on the LTC1728-1.8/LTC1728?3.3 to provide power to the part when the voltage on VCC18 is greater than the voltage on VCC3. Bypass to ground with a >= 0.1uF ceramic (See Datasheet)", 5 VCC3 (power) "3.3V Sense Input and Power Supply Pin. (3V Sense Input and Power Supply Pin for LTC1728-1.8.) This pin provides power to the part when the voltage on VCC3 is greater than the voltage on VCC5/VCC25/VCC18.Bypass to ground with (See Datasheet)"